# EAGLE library part TPS7A7200 (library ICs)
LDO Voltage Regulator, Adjustable, 1.5V to 6.5V in, 180mV drop, 900mV to 5V/2A out, QFN-16
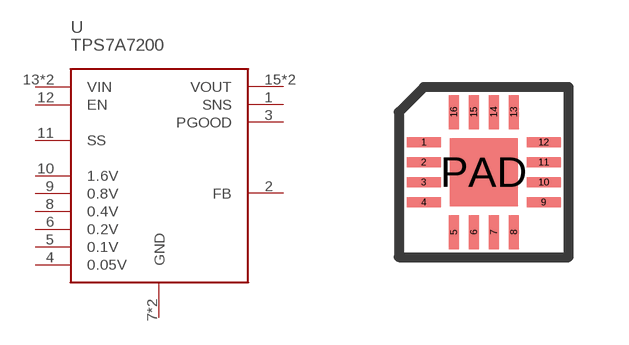
[diagram p154: symbol with the pads of VSON16; footprint VSON16]

Designator prefix U

## TPS7A7200RGT (FARNELL: 2307977; PRICE_PER: 2.05; VALUE: TPS7A7200)  [VSON16]
1  SNS
2  FB
3  PGOOD
4  0.05V
5  0.1V
6  0.2V
7  GND
8  0.4V
9  0.8V
10  1.6V
11  SS
12  EN
13  VIN
14  VIN
15  VOUT
16  VOUT
PAD  GND

## Footprint VSON16 (pad centres in mm)
smd 0.85 x 0.25: 1 -1.5,0.75; 2 -1.5,0.25; 3 -1.5,-0.25; 4 -1.5,-0.75; 9 1.5,-0.75; 10 1.5,-0.25; 11 1.5,0.25; 12 1.5,0.75
smd 0.25 x 0.85: 5 -0.75,-1.5; 6 -0.25,-1.5; 7 0.25,-1.5; 8 0.75,-1.5; 13 0.75,1.5; 14 0.25,1.5; 15 -0.25,1.5; 16 -0.75,1.5
smd 1.7 x 1.7: PAD 0,0